# Altium schematic symbol library PMOS_S.SchLib: 1 symbol
Pins are listed as number, name and electrical type; pins without a type are passive.

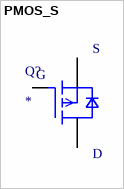
[diagram p0: symbol PMOS_S]

## PMOS_S
designator Q?
Value: *
pins: 1 G, 2 S, 3 D